# Altium footprint library CAP_450V_470uF.PcbLib: 1 footprints
Each footprint in its own frame and in the unit in brackets; x right, y up, seen from the top. Pads: shape width x height; smd on the part's side, far side on the other; paste and mask are expansions set on the pad; w line width, h text height; cw(c..) or ccw(c..) is an arc to the next point about the centre after c.
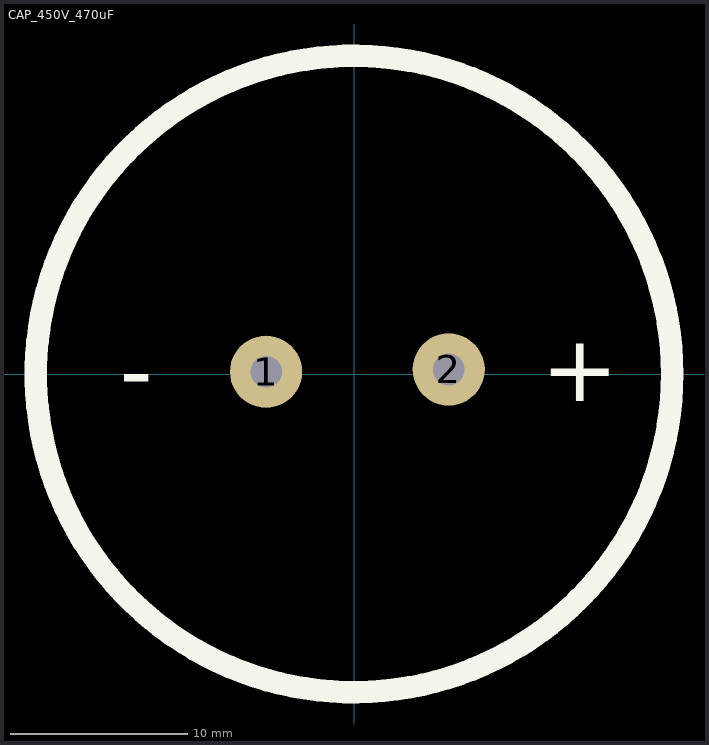
[diagram p0: the footprint, top view; thin cyan lines are the x and y axes]

## CAP_450V_470uF [mil]
pads (2):
  round 160 hole 70: 1(-195,5) 2(210,10)
Top Overlay:
  circle w50: c0,0 r705.64
  text "+" at 415,-59.99 h150
  text "-" at -520,-64.98 h150
3D body "HITANO 470uF 450V EHP 105C (N).STEP": height 2044.3, standoff -243.1, extent -683.98,-678.98 697.91,702.91